# Altium integrated library NXP_60_26022015.IntLib: 1306 symbols (part 6 of 28)
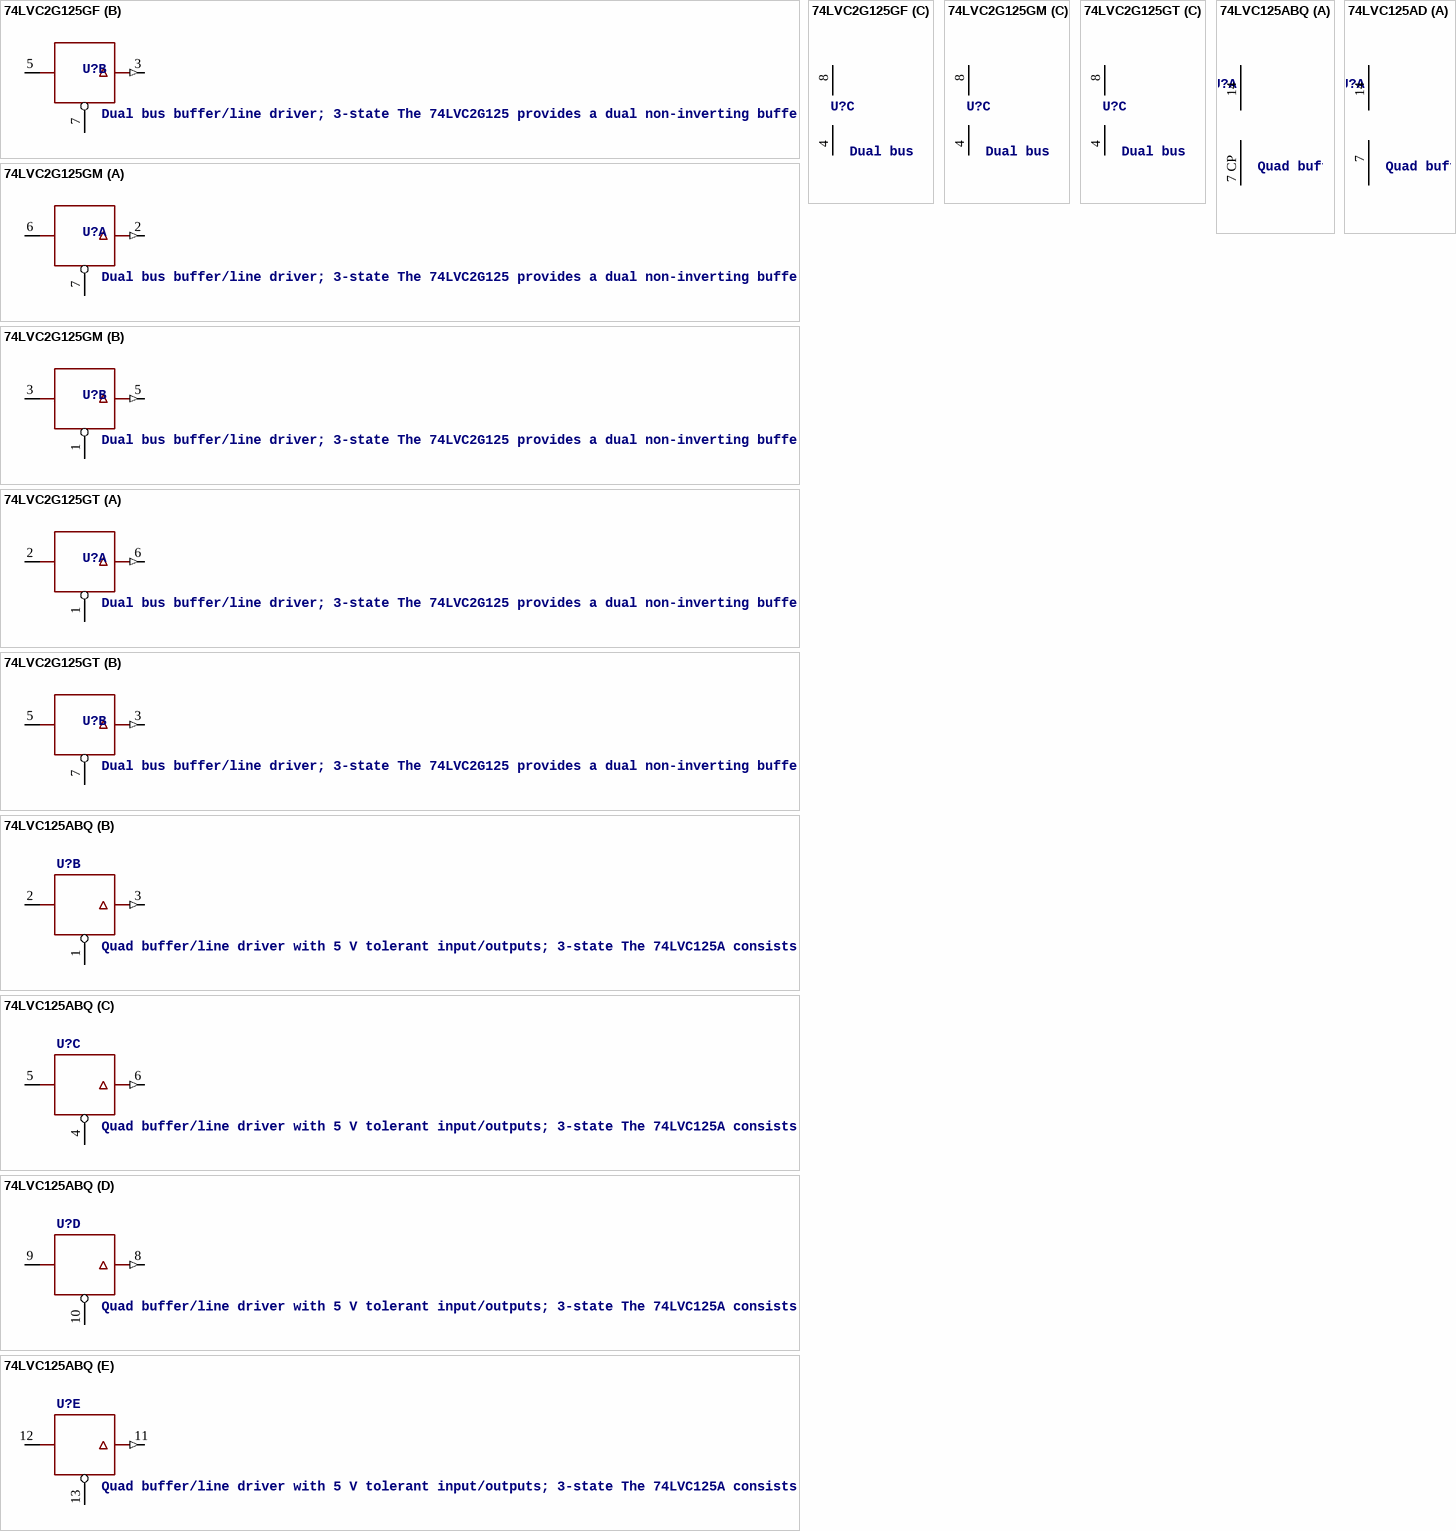
[diagram p190: symbols 74LVC2G125GF to 74LVC125AD]

## 74LVC2G125GT
designator U?, comment Dual bus buffer/line driver; 3-state The 74LVC2G125 provides a dual non-inverting buffer/line driver with 3-state output. The 3-state output is controlled by the output enable input (pin nOE). A HIGH-level at pin nOE causes the output to assume a high-impedance OFF-state. Schmitt trigger action at all inputs makes the circuit highly tolerant of slower input rise and fall times. Inputs can be driven from either 3.3 V or 5 V devices. This feature allows the use of these devices as translators in a mixed 3.3 V and 5 V environment. This device is fully specified for partial power-down applications using IOFF. The IOFF circuitry disables the output, preventing a damaging backflow current through the device when it is powered down.    AAL Eindhoven MK
footprint SOT833-1
part A pins: 1 !OE, 2 A, 6 Y (out)
part B pins: 3 Y (out), 5 A, 7 !OE
part C pins: 4 GND (power), 8 VCC (power)

## 74LVC125ABQ
designator U?, comment Quad buffer/line driver with 5 V tolerant input/outputs; 3-state The 74LVC125A consists of four non-inverting buffers/line drivers with 3-state outputs (nY) that are controlled by the output enable input (nOE). A HIGH at nOE causes the outputs to assume a high-impedance OFF-state. Inputs can be driven from either 3.3 V or 5 V devices. When disabled, up to 5.5 V can be applied to the outputs.   AAL Eindhoven MK
footprint SOT762-1
part A pins: 7 CP GND (power), 14 VCC (power)
part B pins: 1 !OE, 2 A, 3 Y (out)
part C pins: 4 !OE, 5 A, 6 Y (out)
part D pins: 8 Y (out), 9 A, 10 !OE
part E pins: 11 Y (out), 12 A, 13 !OE

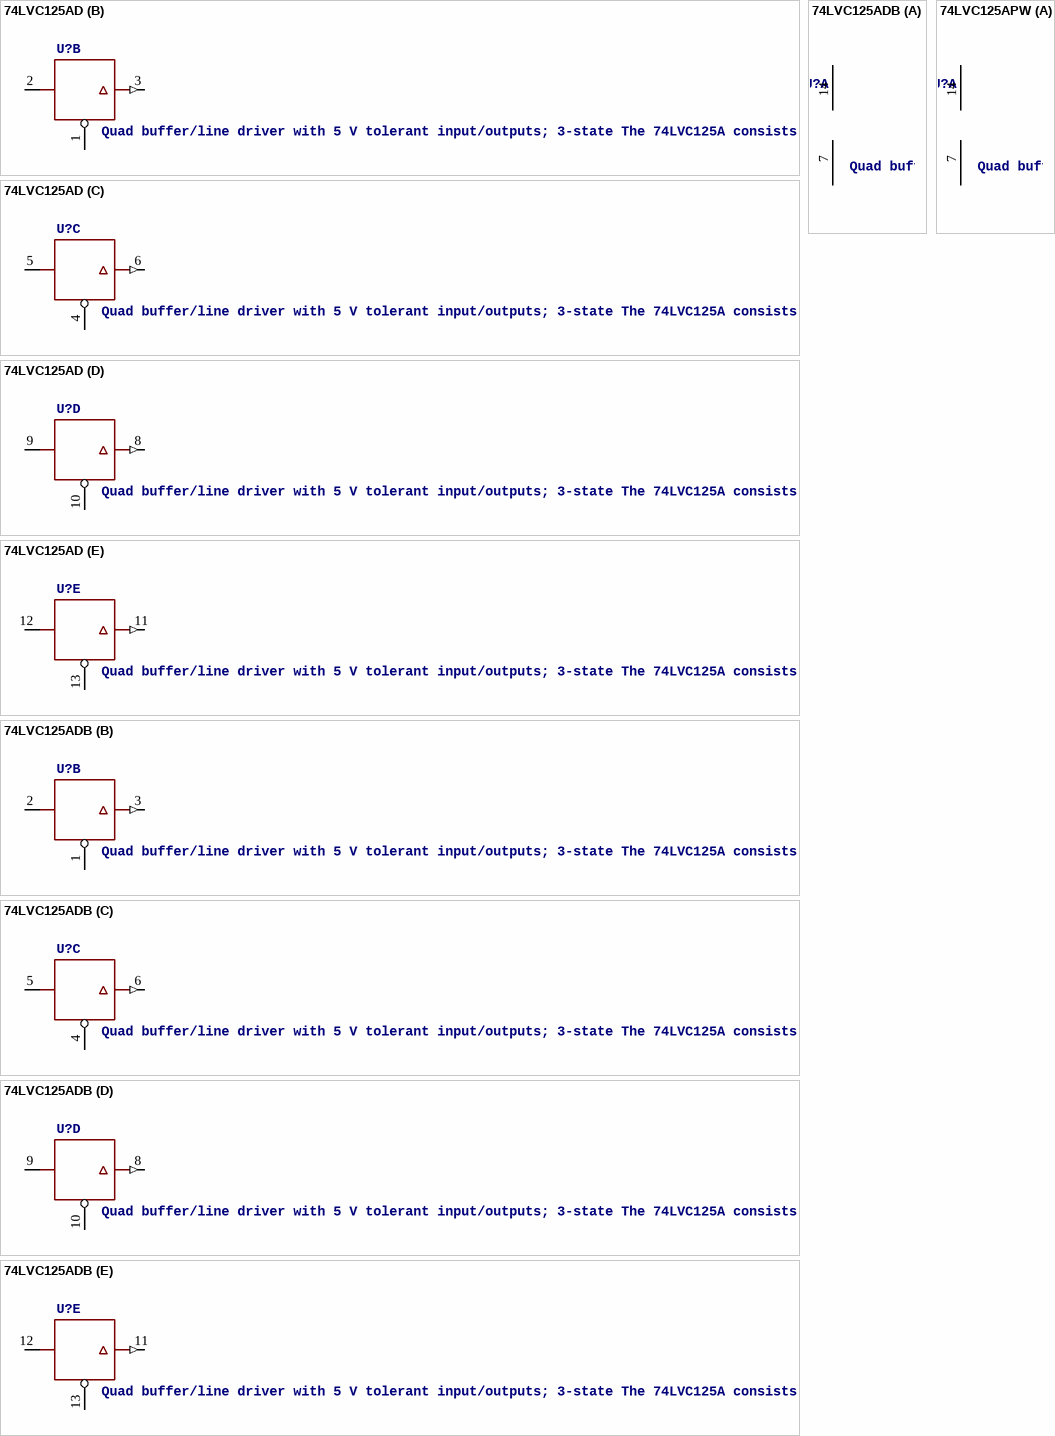
[diagram p27: symbols 74LVC125AD to 74LVC125APW]

## 74LVC125AD
designator U?, comment Quad buffer/line driver with 5 V tolerant input/outputs; 3-state The 74LVC125A consists of four non-inverting buffers/line drivers with 3-state outputs (nY) that are controlled by the output enable input (nOE). A HIGH at nOE causes the outputs to assume a high-impedance OFF-state. Inputs can be driven from either 3.3 V or 5 V devices. When disabled, up to 5.5 V can be applied to the outputs.   AAL Eindhoven MK
12NC: 9352 317 00118
footprint SOT108-1
part A pins: 7 GND (power), 14 VCC (power)
part B pins: 1 !OE, 2 A, 3 Y (out)
part C pins: 4 !OE, 5 A, 6 Y (out)
part D pins: 8 Y (out), 9 A, 10 !OE
part E pins: 11 Y (out), 12 A, 13 !OE

## 74LVC125ADB
designator U?, comment Quad buffer/line driver with 5 V tolerant input/outputs; 3-state The 74LVC125A consists of four non-inverting buffers/line drivers with 3-state outputs (nY) that are controlled by the output enable input (nOE). A HIGH at nOE causes the outputs to assume a high-impedance OFF-state. Inputs can be driven from either 3.3 V or 5 V devices. When disabled, up to 5.5 V can be applied to the outputs.   AAL Eindhoven MK
footprint SOT337
part A pins: 7 GND (power), 14 VCC (power)
part B pins: 1 !OE, 2 A, 3 Y (out)
part C pins: 4 !OE, 5 A, 6 Y (out)
part D pins: 8 Y (out), 9 A, 10 !OE
part E pins: 11 Y (out), 12 A, 13 !OE

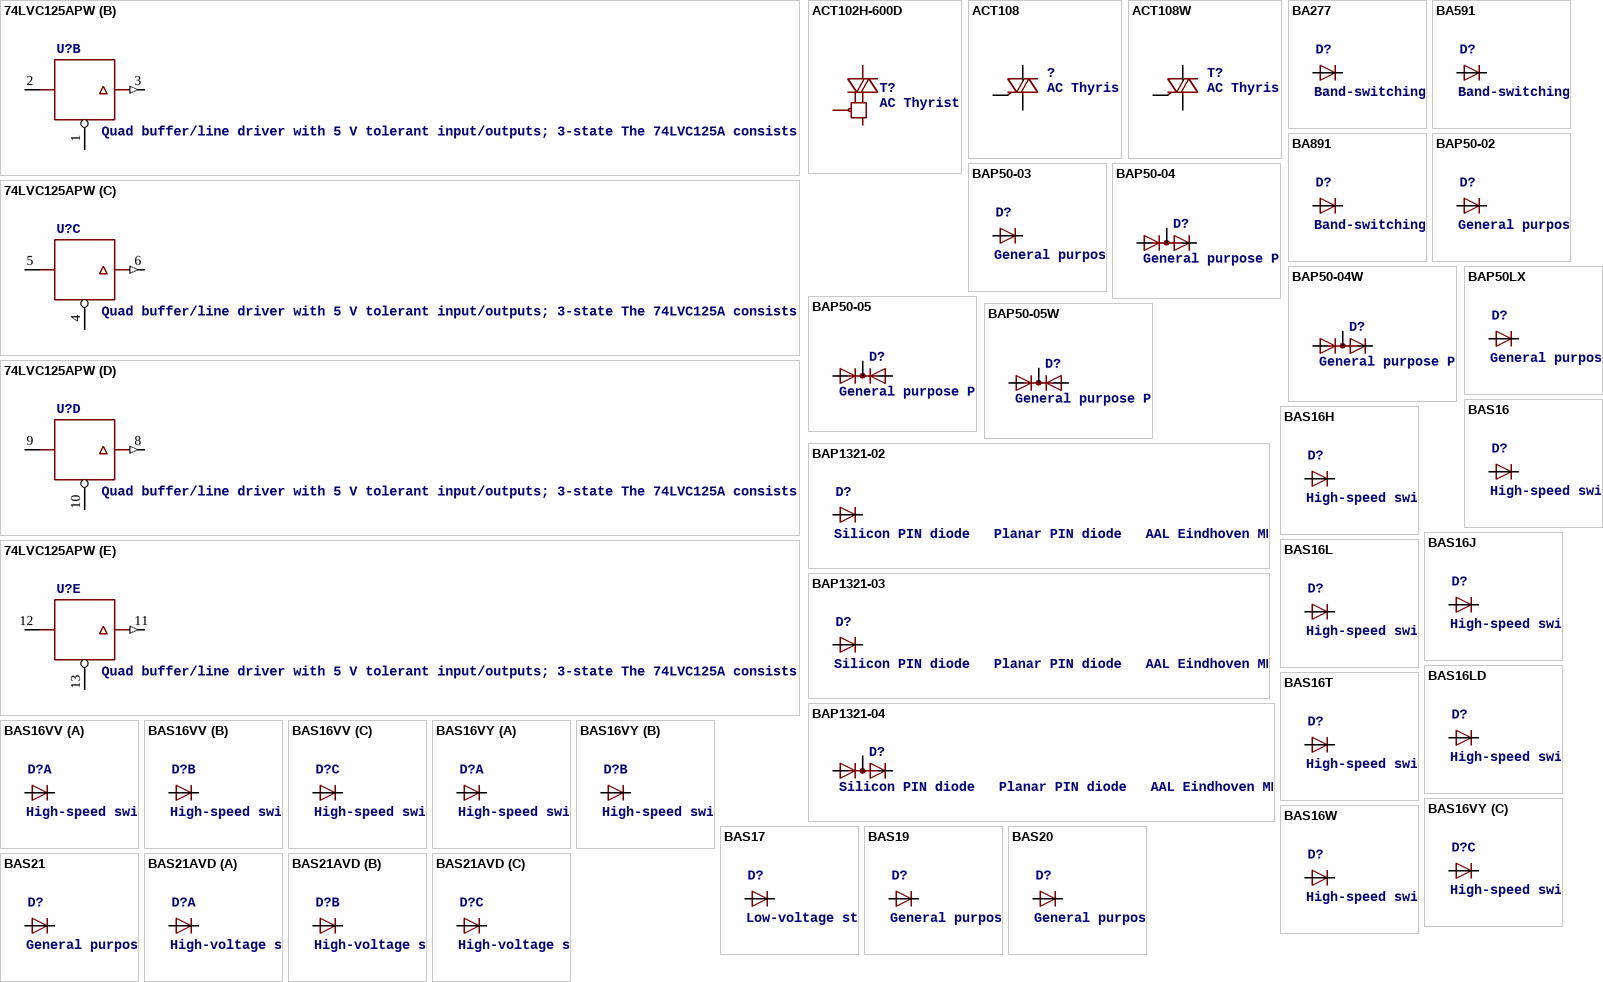
[diagram p28: symbols 74LVC125APW to BAS21AVD]

## 74LVC125APW
designator U?, comment Quad buffer/line driver with 5 V tolerant input/outputs; 3-state The 74LVC125A consists of four non-inverting buffers/line drivers with 3-state outputs (nY) that are controlled by the output enable input (nOE). A HIGH at nOE causes the outputs to assume a high-impedance OFF-state. Inputs can be driven from either 3.3 V or 5 V devices. When disabled, up to 5.5 V can be applied to the outputs.   AAL Eindhoven MK
footprint SOT402-1
part A pins: 7 GND (power), 14 VCC (power)
part B pins: 1 !OE, 2 A, 3 Y (out)
part C pins: 4 !OE, 5 A, 6 Y (out)
part D pins: 8 Y (out), 9 A, 10 !OE
part E pins: 11 Y (out), 12 A, 13 !OE

## ACT102H-600D
designator T?, comment AC Thyristor power switch An AC Thyristor power switch with very high noise immunity and over-voltage protection configured for negative gate triggering in a SOT96-1 (SO8) small surface-mountable plastic package   AAL Eindhoven MK
12NC: 9340 645 54118
footprint SOT96-1
pins: 2 LD, 5 G, 6 7 CM

## ACT108
designator ?, comment AC Thyristor power switch  AC Thyristor power switch in a SOT54 plastic package with self-protective capabilities against low and high energy transients   AAL Eindhoven MK
footprint SOT54A
pins: 1 T1, 2 G, 3 T2

## ACT108W
designator T?, comment AC Thyristor power switch AC Thyristor power switch in a SOT223 surface-mountable plastic package with self-protective capabilities against low and high energy transients   AAL Eindhoven MK
12NC: 9340 644 42135; 12NC: 9340 633 73135
footprint SOT223
pins: 1 T2, 2 4 T1, 3 G

## BA277
designator D?, comment Band-switching diode Planar high performance band-switching diode in a small plastic SOD523 (SC-79) SMD package.   AAL Eindhoven MK
footprint SOD523
pins: 1 K, 2 A

## BA591
designator D?, comment Band-switching diode The BA591 is a planar, high performance band-switching diode in the very small SOD323 (SC-76) SMD plastic package.   AAL Eindhoven MK
footprint SOD323(F)
pins: 1 K, 2 A

## BA891
designator D?, comment Band-switching diode The BA891 is a planar high performance band-switching diode in the ultra small SOD523 SMD plastic package.   AAL Eindhoven MK
footprint SOD523
pins: 1 K, 2 A

## BAP50-02
designator D?, comment General purpose PIN diode General purpose PIN diode   AAL Eindhoven MK
footprint SOD523
pins: 1 K, 2 A

## BAP50-03
designator D?, comment General purpose PIN diode General purpose PIN diode   AAL Eindhoven MK
footprint SOD323(F)
pins: 1 K, 2 A

## BAP50-04
designator D?, comment General purpose PIN diode Two planar PIN diodes in series configuration.   AAL Eindhoven MK
footprint SOT23
pins: 1 A1, 2 K2, 3 K1A2

## BAP50-04W
designator D?, comment General purpose PIN diode Two planar PIN diodes in series configuration.   AAL Eindhoven MK
footprint SOT323
pins: 1 A1, 2 K2, 3 K1A2

## BAP50-05
designator D?, comment General purpose PIN diode Two planar PIN diodes in common cathode configuration.    AAL Eindhoven MK
footprint SOT23
pins: 1 A1, 2 A2, 3 K1K2

## BAP50-05W
designator D?, comment General purpose PIN diode Two planar PIN diodes in common cathode configuration.    AAL Eindhoven MK
footprint SOT323
pins: 1 A1, 2 A2, 3 K1K2

## BAP50LX
designator D?, comment General purpose PIN diode General purpose PIN diode   AAL Eindhoven MK
footprint SOD882(T)
pins: 1 K, 2 A

## BAP1321-02
designator D?, comment Silicon PIN diode   Planar PIN diode   AAL Eindhoven MK
footprint SOD523
pins: 1 K, 2 A

## BAP1321-03
designator D?, comment Silicon PIN diode   Planar PIN diode   AAL Eindhoven MK
footprint SOD323(F)
pins: 1 K, 2 A

## BAP1321-04
designator D?, comment Silicon PIN diode   Planar PIN diode   AAL Eindhoven MK
footprint SOT23
pins: 1 A1, 2 K2, 3 K1A2

## BAS16
designator D?, comment High-speed switching diode High-speed switching diode, encapsulated in small Surface-Mounted Device (SMD) plastic packages.   AAL Eindhoven MK
footprint SOT23
pins: 1 A, 3 K

## BAS16H
designator D?, comment High-speed switching diode High-speed switching diode, encapsulated in small Surface-Mounted Device (SMD) plastic packages.   AAL Eindhoven MK
footprint SOD123F
pins: 1 K, 2 A

## BAS16J
designator D?, comment High-speed switching diode High-speed switching diode, encapsulated in small Surface-Mounted Device (SMD) plastic packages.   AAL Eindhoven MK
footprint SOD323(F)
pins: 1 K, 2 A

## BAS16L
designator D?, comment High-speed switching diode High-speed switching diode, encapsulated in small Surface-Mounted Device (SMD) plastic packages.   AAL Eindhoven MK
footprint SOD882(T)
pins: 1 K, 2 A

## BAS16LD
designator D?, comment High-speed switching diode High-speed switching diode, encapsulated in small Surface-Mounted Device (SMD) plastic packages.   AAL Eindhoven MK
footprint SOD882D
pins: 1 K, 2 A

## BAS16T
designator D?, comment High-speed switching diode High-speed switching diode, encapsulated in small Surface-Mounted Device (SMD) plastic packages.   AAL Eindhoven MK
footprint SOT416
pins: 1 A, 3 K

## BAS16VV
designator D?, comment High-speed switching diodes High-speed switching diodes, encapsulated in small Surface-Mounted Device (SMD) plastic packages.   AAL Eindhoven MK
footprint SOT666
part A pins: 1 A, 6 K
part B pins: 2 A, 5 K
part C pins: 3 A, 4 K

## BAS16VY
designator D?, comment High-speed switching diodes High-speed switching diodes, encapsulated in small Surface-Mounted Device (SMD) plastic packages.   AAL Eindhoven MK
footprint SOT363
part A pins: 1 A, 6 K
part B pins: 2 A, 5 K
part C pins: 3 A, 4 K

## BAS16W
designator D?, comment High-speed switching diode High-speed switching diode, encapsulated in small Surface-Mounted Device (SMD) plastic packages.   AAL Eindhoven MK
footprint SOT323
pins: 1 A, 3 K

## BAS17
designator D?, comment Low-voltage stabistor Low-voltage stabilization diode in a small SOT23 plastic package.   AAL Eindhoven MK
footprint SOT23
pins: 1 A, 3 K

## BAS19
designator D?, comment General purpose diode The BAS19, BAS20 and BAS21 are general purpose diodes fabricated in planar technology, and encapsulated in a small SOT23 plastic SMD package.   AAL Eindhoven MK
footprint SOT23
pins: 1 A, 3 K

## BAS20
designator D?, comment General purpose diode The BAS19, BAS20 and BAS21 are general purpose diodes fabricated in planar technology, and encapsulated in a small SOT23 plastic SMD package.   AAL Eindhoven MK
footprint SOT23
pins: 1 A, 3 K

## BAS21
designator D?, comment General purpose diode The BAS19, BAS20 and BAS21 are general purpose diodes fabricated in planar technology, and encapsulated in a small SOT23 plastic SMD package.   AAL Eindhoven MK
footprint SOT23
pins: 1 A, 3 K

## BAS21AVD
designator D?, comment High-voltage switching diodes Triple high-voltage switching diodes, encapsulated in a SOT457 (SC-74) small Surface-Mounted Device (SMD) plastic package.   AAL Eindhoven MK
footprint SOT457
part A pins: 1 A, 6 K
part B pins: 2 A, 5 K
part C pins: 3 A, 4 K

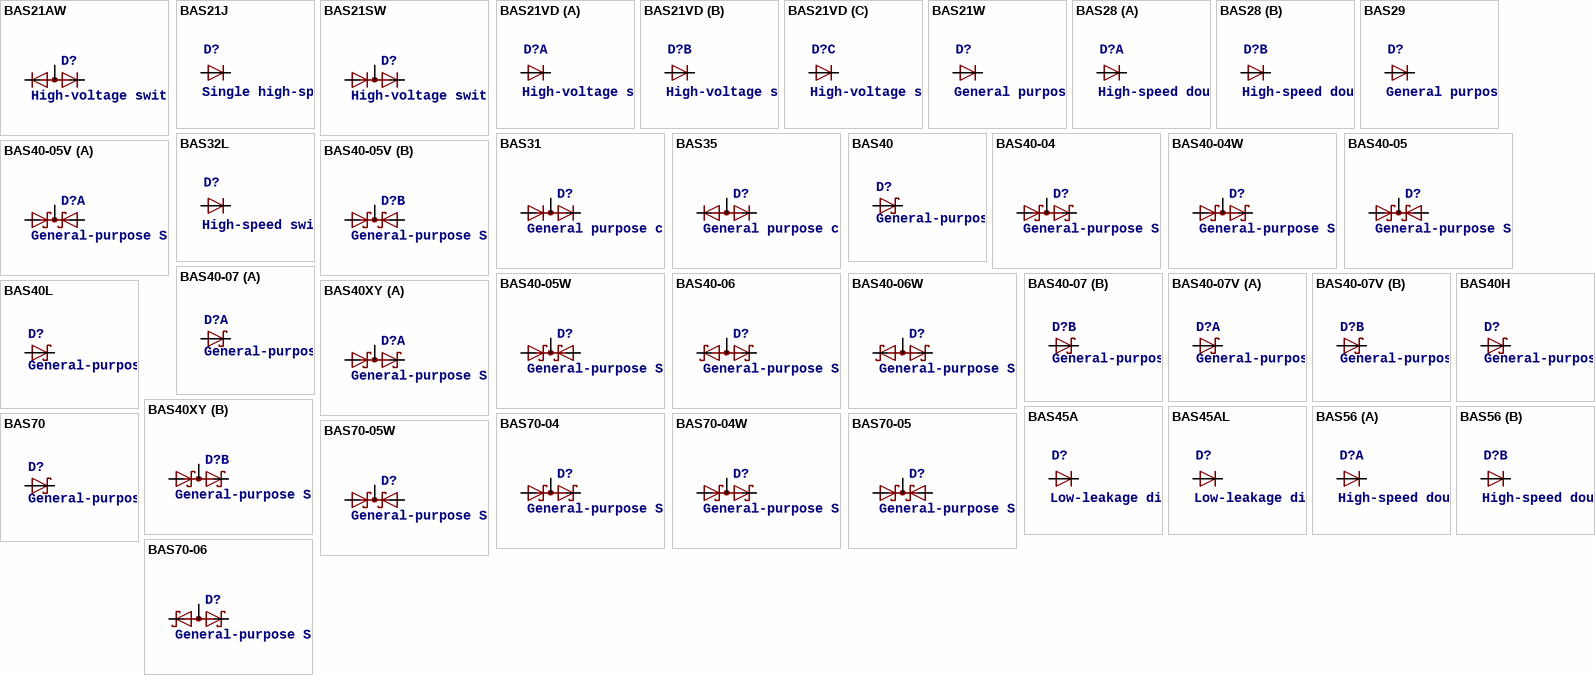
[diagram p29: symbols BAS21AW to BAS70-06]

## BAS21AW
designator D?, comment High-voltage switching diodes High-voltage switching diodes, encapsulated in a very small Surface-Mounted Device (SMD) plastic package.    AAL Eindhoven MK
footprint SOT323
pins: 1 K1, 2 K2, 3 A1A2

## BAS21J
designator D?, comment Single high-speed switching diode Single high-speed switching diode, encapsulated in a SOD323F (SC-90) very small and ?at lead Surface-Mounted Device (SMD) plastic package.   AAL Eindhoven MK
footprint SOD323(F)
pins: 1 K, 2 A

## BAS21SW
designator D?, comment High-voltage switching diodes High-voltage switching diodes, encapsulated in a very small Surface-Mounted Device (SMD) plastic package.    AAL Eindhoven MK
footprint SOT323
pins: 1 A1, 2 K2, 3 K1A2

## BAS21VD
designator D?, comment High-voltage switching diodes Triple high-voltage switching diodes, encapsulated in a SOT457 (SC-74) small Surface-Mounted Device (SMD) plastic package.   AAL Eindhoven MK
footprint SOT457
part A pins: 1 K, 6 A
part B pins: 2 K, 5 A
part C pins: 3 K, 4 A

## BAS21W
designator D?, comment General purpose diode The BAS19, BAS20 and BAS21 are general purpose diodes fabricated in planar technology, and encapsulated in a small SOT23 plastic SMD package.   AAL Eindhoven MK
12NC: 9340 632 68115
footprint SOT323
pins: 1 A, 3 K

## BAS28
designator D?, comment High-speed double diode  Two high-speed switching diodes fabricated in planar technology, and encapsulated in a small SOT143B Surface-Mounted Device (SMD) plastic package. The diodes are not connected.   AAL Eindhoven MK
footprint SOT143(B)
part A pins: 1 K, 4 A
part B pins: 2 K, 3 A

## BAS29
designator D?, comment General purpose controlled avalanche diode  General purpose switching diodes fabricated in planar technology, and encapsulated in small rectangular plastic SMD SOT23 packages. The BAS29 consists of a single diode. The BAS31 has two diodes in series. The BAS35 has two diodes with a common anode.    AAL Eindhoven MK
footprint SOT23
pins: 1 A, 3 K

## BAS31
designator D?, comment General purpose controlled avalanche diode (double)  General purpose switching diodes fabricated in planar technology, and encapsulated in small rectangular plastic SMD SOT23 packages. The BAS29 consists of a single diode. The BAS31 has two diodes in series. The BAS35 has two diodes with a common anode.    AAL Eindhoven MK
footprint SOT23
pins: 1 A1, 2 K2, 3 K1A2

## BAS32L
designator D?, comment High-speed switching diode  Single high-speed switching diode, fabricated in planar technology, and encapsulated in a small hermetically sealed glass SOD80C Surface-Mounted Device (SMD) package.   AAL Eindhoven MK
footprint SOD80C
pins: 1 K, 2 A

## BAS35
designator D?, comment General purpose controlled avalanche diode (double)  General purpose switching diodes fabricated in planar technology, and encapsulated in small rectangular plastic SMD SOT23 packages. The BAS29 consists of a single diode. The BAS31 has two diodes in series. The BAS35 has two diodes with a common anode.    AAL Eindhoven MK
footprint SOT23
pins: 1 K1, 2 K2, 3 A1A2

## BAS40
designator D?, comment General-purpose Schottky diode  General-purpose Schottky diodes in small Surface-Mounted Device (SMD) plastic packages.    AAL Eindhoven MK
12NC: 9340 345 30215
footprint SOT23
pins: 1 A, 3 K

## BAS40-04
designator D?, comment General-purpose Schottky diodes General-purpose Schottky diodes in small Surface-Mounted Device (SMD) plastic packages   AAL Eindhoven MK
FARNELL: 1907602
footprint SOT23
pins: 1 A1, 2 K2, 3 K1A2

## BAS40-04W
designator D?, comment General-purpose Schottky diodes General-purpose Schottky diodes in small Surface-Mounted Device (SMD) plastic packages   AAL Eindhoven MK
footprint SOT323
pins: 1 A1, 2 K2, 3 K1A2

## BAS40-05
designator D?, comment General-purpose Schottky diodes General-purpose Schottky diodes in small Surface-Mounted Device (SMD) plastic packages   AAL Eindhoven MK
footprint SOT23
pins: 1 A1, 2 A2, 3 K1K2

## BAS40-05V
designator D?, comment General-purpose Schottky diodes  General-purpose Schottky diodes in small Surface-Mounted Device (SMD) plastic packages.   AAL Eindhoven MK
footprint SOT666
part A pins: 1 A1, 2 A2, 6 K1K2
part B pins: 3 K1K2, 4 A1, 5 A2

## BAS40-05W
designator D?, comment General-purpose Schottky diodes General-purpose Schottky diodes in small Surface-Mounted Device (SMD) plastic packages   AAL Eindhoven MK
footprint SOT323
pins: 1 A1, 2 A2, 3 K1K2

## BAS40-06
designator D?, comment General-purpose Schottky diodes General-purpose Schottky diodes in small Surface-Mounted Device (SMD) plastic packages   AAL Eindhoven MK
footprint SOT23
pins: 1 K1, 2 K2, 3 A1A2

## BAS40-06W
designator D?, comment General-purpose Schottky diodes General-purpose Schottky diodes in small Surface-Mounted Device (SMD) plastic packages   AAL Eindhoven MK
footprint SOT323
pins: 1 K1, 2 K2, 3 A1A2

## BAS40-07
designator D?, comment General-purpose Schottky diodes  General-purpose Schottky diodes in small Surface-Mounted Device (SMD) plastic packages.   AAL Eindhoven MK
FARNELL: 8734364
footprint SOT143(B)
part A pins: 1 K, 4 A
part B pins: 2 K, 3 A

## BAS40-07V
designator D?, comment General-purpose Schottky diodes  General-purpose Schottky diodes in small Surface-Mounted Device (SMD) plastic packages.   AAL Eindhoven MK
footprint SOT666
part A pins: 1 A, 6 K
part B pins: 3 K, 4 A

## BAS40H
designator D?, comment General-purpose Schottky diode  General-purpose Schottky diodes in small Surface-Mounted Device (SMD) plastic packages.    AAL Eindhoven MK
12NC: 9340 592 81115
footprint SOD123F
pins: 1 K, 2 A

## BAS40L
designator D?, comment General-purpose Schottky diode  General-purpose Schottky diodes in small Surface-Mounted Device (SMD) plastic packages.    AAL Eindhoven MK
12NC: 9340 572 53315
footprint SOD882(T)
pins: 1 K, 2 A

## BAS40XY
designator D?, comment General-purpose Schottky diodes  General-purpose Schottky diodes in small Surface-Mounted Device (SMD) plastic packages.   AAL Eindhoven MK
footprint SOT363
part A pins: 1 A1, 2 K2, 6 K1A2
part B pins: 3 K1A2, 4 A1, 5 K2

## BAS45A
designator D?, comment Low-leakage diode Epitaxial medium-speed switching diode with a low leakage current, encapsulated in a small hermetically sealed glass SOD80C Surface-Mounted Device (SMD) package.   AAL Eindhoven MK
footprint SOD68
pins: A, C K

## BAS45AL
designator D?, comment Low-leakage diode Epitaxial medium-speed switching diode with a low leakage current, encapsulated in a small hermetically sealed glass SOD80C Surface-Mounted Device (SMD) package.   AAL Eindhoven MK
footprint SOD80C
pins: 1 K, 2 A

## BAS56
designator D?, comment High-speed double diode Two high-speed switching diodes fabricated in planar technology, and encapsulated in a small SOT143B Surface-Mounted Device (SMD) plastic package. The diodes are not connected.   AAL Eindhoven MK
footprint SOT143(B)
part A pins: 1 K, 4 A
part B pins: 2 K, 3 A

## BAS70
designator D?, comment General-purpose Schottky diode  General-purpose Schottky diodes in small Surface-Mounted Device (SMD) plastic packages.    AAL Eindhoven MK
footprint SOT23
pins: 1 A, 3 K

## BAS70-04
designator D?, comment General-purpose Schottky diodes General-purpose Schottky diodes in small Surface-Mounted Device (SMD) plastic packages   AAL Eindhoven MK
footprint SOT23
pins: 1 A1, 2 K2, 3 K1A2

## BAS70-04W
designator D?, comment General-purpose Schottky diodes General-purpose Schottky diodes in small Surface-Mounted Device (SMD) plastic packages   AAL Eindhoven MK
footprint SOT323
pins: 1 A1, 2 K2, 3 K1A2

## BAS70-05
designator D?, comment General-purpose Schottky diodes General-purpose Schottky diodes in small Surface-Mounted Device (SMD) plastic packages   AAL Eindhoven MK
footprint SOT23
pins: 1 A1, 2 A2, 3 K1K2

## BAS70-05W
designator D?, comment General-purpose Schottky diodes General-purpose Schottky diodes in small Surface-Mounted Device (SMD) plastic packages   AAL Eindhoven MK
footprint SOT323
pins: 1 A1, 2 A2, 3 K1K2

## BAS70-06
designator D?, comment General-purpose Schottky diodes General-purpose Schottky diodes in small Surface-Mounted Device (SMD) plastic packages   AAL Eindhoven MK
footprint SOT23
pins: 1 K1, 2 K2, 3 A1A2

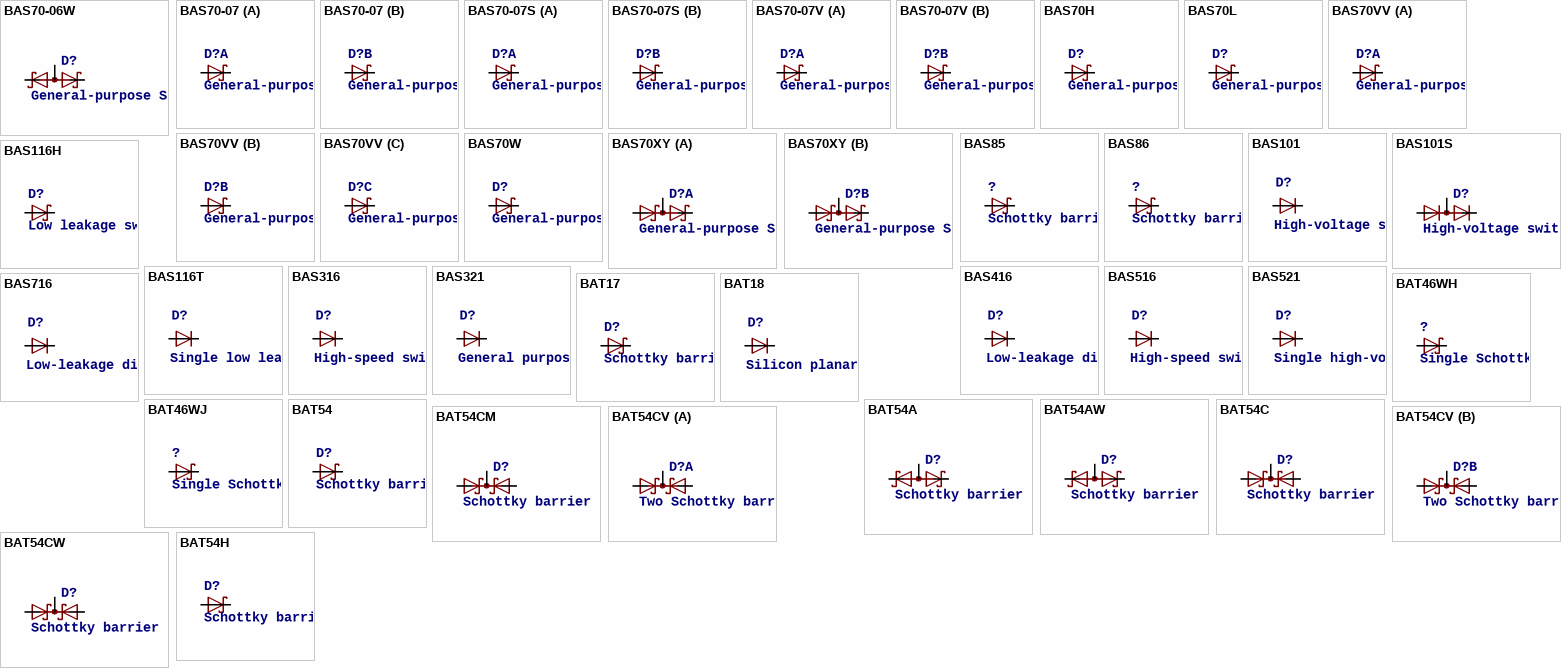
[diagram p30: symbols BAS70-06W to BAT54H]

## BAS70-06W
designator D?, comment General-purpose Schottky diodes General-purpose Schottky diodes in small Surface-Mounted Device (SMD) plastic packages   AAL Eindhoven MK
footprint SOT323
pins: 1 K1, 2 K2, 3 A1A2

## BAS70-07
designator D?, comment General-purpose Schottky diodes  General-purpose Schottky diodes in small Surface-Mounted Device (SMD) plastic packages.   AAL Eindhoven MK
footprint SOT143(B)
part A pins: 1 K, 4 A
part B pins: 2 K, 3 A

## BAS70-07S
designator D?, comment General-purpose Schottky diodes  General-purpose Schottky diodes in small Surface-Mounted Device (SMD) plastic packages.   AAL Eindhoven MK
footprint SOT363
part A pins: 1 A, 6 K
part B pins: 3 K, 4 A

## BAS70-07V
designator D?, comment General-purpose Schottky diodes  General-purpose Schottky diodes in small Surface-Mounted Device (SMD) plastic packages.   AAL Eindhoven MK
footprint SOT666
part A pins: 1 A, 6 K
part B pins: 3 K, 4 A

## BAS70H
designator D?, comment General-purpose Schottky diode  General-purpose Schottky diodes in small Surface-Mounted Device (SMD) plastic packages.    AAL Eindhoven MK
footprint SOD123F
pins: 1 K, 2 A

## BAS70L
designator D?, comment General-purpose Schottky diode  General-purpose Schottky diodes in small Surface-Mounted Device (SMD) plastic packages.    AAL Eindhoven MK
footprint SOD882(T)
pins: 1 K, 2 A

## BAS70VV
designator D?, comment General-purpose Schottky diodes General-purpose Schottky diodes in small Surface-Mounted Device (SMD) plastic packages.   AAL Eindhoven MK
footprint SOT666
part A pins: 1 A, 6 K
part B pins: 2 A, 5 K
part C pins: 3 A, 4 K

## BAS70W
designator D?, comment General-purpose Schottky diode  General-purpose Schottky diodes in small Surface-Mounted Device (SMD) plastic packages.    AAL Eindhoven MK
footprint SOT323
pins: 1 A, 3 K

## BAS70XY
designator D?, comment General-purpose Schottky diodes  General-purpose Schottky diodes in small Surface-Mounted Device (SMD) plastic packages.   AAL Eindhoven MK
footprint SOT363
part A pins: 1 A1, 2 K2, 6 K1A2
part B pins: 3 K1A2, 4 A1, 5 K2

## BAS85
designator ?, comment Schottky barrier diode Planar Schottky barrier diode with an integrated guard ring for stress protection, encapsulated in a small hermetically sealed glass SOD80C Surface-Mounted Device SMD package with tin-plated metal discs at each end. It is suitable for ?automatic placement? and as such it can withstand immersion soldering.   AAL Eindhoven MK
footprint SOD80C
pins: 1 K, 2 A

## BAS86
designator ?, comment Schottky barrier diode Planar Schottky barrier diode with an integrated guard ring against static discharges. This surface-mounted device is encapsulated in a small hermetically sealed SOD80C glass Surface-Mounted Device (SMD) package with tin-plated metal discs at each end. It is suitable for ?automatic placement? and as such it can withstand immersion soldering.   AAL Eindhoven MK
footprint SOD80C
pins: 1 K, 2 A

## BAS101
designator D?, comment High-voltage switching diode High-voltage switching diode, encapsulated in a SOT23 small Surface-Mounted Device (SMD) plastic package.   AAL Eindhoven MK
footprint SOT23
pins: 1 A, 3 K

## BAS101S
designator D?, comment High-voltage switching diodes High-voltage switching diodes, encapsulated in a SOT23 small Surface-Mounted Device (SMD) plastic package.   AAL Eindhoven MK
footprint SOT23
pins: 1 A1, 2 K2, 3 K1A2

## BAS116H
designator D?, comment Low leakage switching diode Low leakage switching diode, encapsulated in a SOD123F small and flat lead Surface-Mounted Device (SMD) plastic package.    AAL Eindhoven MK
footprint SOD123F
pins: 1 K, 2 A

## BAS116T
designator D?, comment Single low leakage current switching diode Single low leakage current switching diode, encapsulated in an ultra small SOT416 (SC-75) Surface-Mounted Device (SMD) plastic package.   AAL Eindhoven MK
footprint SOT416
pins: 1 A, 3 K

## BAS316
designator D?, comment High-speed switching diode High-speed switching diode, encapsulated in small Surface-Mounted Device (SMD) plastic packages.   AAL Eindhoven MK
footprint SOD323(F)
pins: 1 K, 2 A

## BAS321
designator D?, comment General purpose diode The BAS321 is a general purpose diode fabricated in planar technology and encapsulated in a plastic SOD323 package.   AAL Eindhoven MK
footprint SOD323(F)
pins: 1 K, 2 A

## BAS416
designator D?, comment Low-leakage diode Epitaxial, medium-speed switching diode with a low leakage current encapsulated in a small SOD323 SMD plastic package.   AAL Eindhoven MK
footprint SOD323(F)
pins: 1 K, 2 A

## BAS516
designator D?, comment High-speed switching diode High-speed switching diode, encapsulated in small Surface-Mounted Device (SMD) plastic packages.   AAL Eindhoven MK
footprint SOD523
pins: 1 K, 2 A

## BAS521
designator D?, comment Single high-voltage switching diode Single high-voltage switching diode, fabricated in planar technology, and encapsulated in a SOD523 (SC-79) ultra small Surface-Mounted Device (SMD) plastic package.   AAL Eindhoven MK
footprint SOD523
pins: 1 K, 2 A

## BAS716
designator D?, comment Low-leakage diode  Epitaxial medium-speed switching diode with a low leakage current in an ultra small SOD523 (SC-79) SMD plastic package.   AAL Eindhoven MK
footprint SOD523
pins: 1 K, 2 A

## BAT17
designator D?, comment Schottky barrier diode Planar Schottky barrier diode in a small SOT23 plastic SMD package.   AAL Eindhoven MK
footprint SOT23
pins: 1 A, 3 K

## BAT18
designator D?, comment Silicon planar diode Planar high performance band-switching diode in a small rectangular SOT23 SMD plastic package.   AAL Eindhoven MK
footprint SOT23
pins: 1 A, 3 K

## BAT46WH
designator ?, comment Single Schottky barrier diode Single planar Schottky barrier diode with an integrated guard ring for stress protection, encapsulated in a Surface-Mounted Device (SMD) plastic package.   AAL Eindhoven MK
footprint SOD123F
pins: 1 K, 2 A

## BAT46WJ
designator ?, comment Single Schottky barrier diode Single planar Schottky barrier diode with an integrated guard ring for stress protection, encapsulated in a Surface-Mounted Device (SMD) plastic package.   AAL Eindhoven MK
footprint SOD323(F)
pins: 1 K, 2 A

## BAT54
designator D?, comment Schottky barrier diode Planar Schottky barrier diode encapsulated in small plastic SMD packages. Single diodes and double diodes with different pinning are available   AAL Eindhoven MK
footprint SOT23
pins: 1 A, 3 K

## BAT54A
designator D?, comment Schottky barrier (double) diodes Planar Schottky barrier diodes encapsulated in a SOT23 small plastic SMD package. Single diodes and double diodes with different pinning are available.   AAL Eindhoven MK
footprint SOT23
pins: 1 K1, 2 K2, 3 A1A2

## BAT54AW
designator D?, comment Schottky barrier (double) diodes Planar Schottky barrier diodes encapsulated in a SOT23 small plastic SMD package. Single diodes and double diodes with different pinning are available.   AAL Eindhoven MK
footprint SOT323
pins: 1 K1, 2 K2, 3 A1A2

## BAT54C
designator D?, comment Schottky barrier (double) diodes Planar Schottky barrier diodes encapsulated in a SOT23 small plastic SMD package. Single diodes and double diodes with different pinning are available.   AAL Eindhoven MK
footprint SOT23
pins: 1 A1, 2 A2, 3 K1K2

## BAT54CM
designator D?, comment Schottky barrier (double) diodes Planar Schottky barrier diodes encapsulated in a SOT23 small plastic SMD package. Single diodes and double diodes with different pinning are available.   AAL Eindhoven MK
footprint SOT883(B)
pins: 1 A1, 2 A2, 3 K1K2

## BAT54CV
designator D?, comment Two Schottky barrier double diodes  Two planar Schottky barrier double diodes with common cathodes and an integrated guard ring for stress protection encapsulated in a SOT666 ultra small and flat lead Surface-Mounted Device (SMD) plastic package.   AAL Eindhoven MK
footprint SOT666
part A pins: 1 A1, 2 A2, 6 K1K2
part B pins: 3 K1K2, 4 A2, 5 A1

## BAT54CW
designator D?, comment Schottky barrier (double) diodes Planar Schottky barrier diodes encapsulated in a SOT23 small plastic SMD package. Single diodes and double diodes with different pinning are available.   AAL Eindhoven MK
footprint SOT323
pins: 1 A1, 2 A2, 3 K1K2

## BAT54H
designator D?, comment Schottky barrier diode Planar Schottky barrier diode encapsulated in small plastic SMD packages. Single diodes and double diodes with different pinning are available   AAL Eindhoven MK
footprint SOD123F
pins: 1 K, 2 A

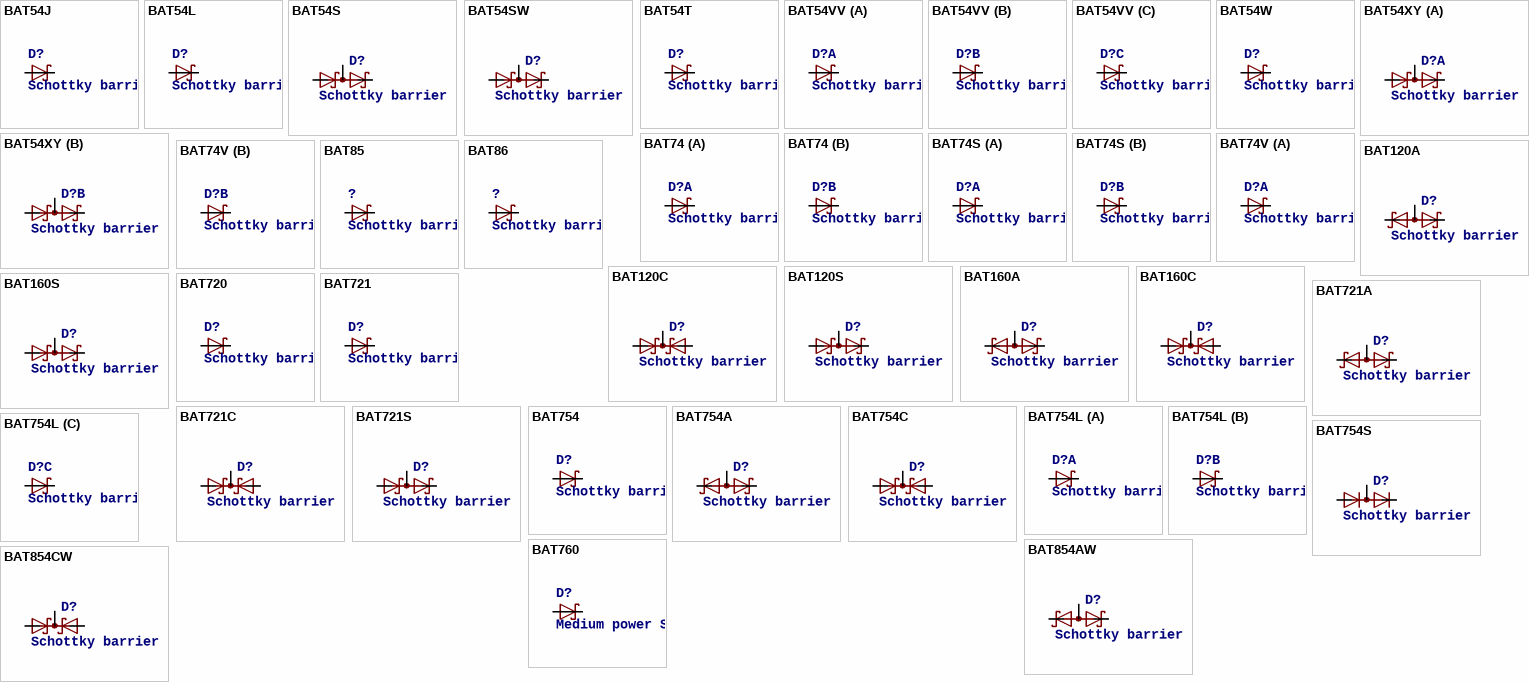
[diagram p31: symbols BAT54J to BAT854CW]

## BAT54J
designator D?, comment Schottky barrier diode Planar Schottky barrier diode encapsulated in small plastic SMD packages. Single diodes and double diodes with different pinning are available   AAL Eindhoven MK
footprint SOD323(F)
pins: 1 K, 2 A

## BAT54L
designator D?, comment Schottky barrier diode Planar Schottky barrier diode encapsulated in small plastic SMD packages. Single diodes and double diodes with different pinning are available   AAL Eindhoven MK
footprint SOD882(T)
pins: 1 K, 2 A

## BAT54S
designator D?, comment Schottky barrier (double) diodes Planar Schottky barrier diodes encapsulated in a SOT23 small plastic SMD package. Single diodes and double diodes with different pinning are available.   AAL Eindhoven MK
footprint SOT23
pins: 1 A1, 2 K2, 3 K1A2

## BAT54SW
designator D?, comment Schottky barrier (double) diodes Planar Schottky barrier diodes encapsulated in a SOT23 small plastic SMD package. Single diodes and double diodes with different pinning are available.   AAL Eindhoven MK
footprint SOT323
pins: 1 A1, 2 K2, 3 K1A2

## BAT54T
designator D?, comment Schottky barrier diode Planar Schottky barrier diode encapsulated in small plastic SMD packages. Single diodes and double diodes with different pinning are available   AAL Eindhoven MK
footprint SOT416
pins: 1 A, 3 K

## BAT54VV
designator D?, comment Schottky barrier triple diode Planar Schottky barrier triple diode with an integrated guard ring for stress protection. Three electrically isolated Schottky barrier diodes, encapsulated in a SOT666 ultra small SMD plastic package.   AAL Eindhoven MK
footprint SOT666
part A pins: 1 A, 6 K
part B pins: 2 A, 5 K
part C pins: 3 A, 4 K

## BAT54W
designator D?, comment Schottky barrier diode Planar Schottky barrier diode encapsulated in small plastic SMD packages. Single diodes and double diodes with different pinning are available   AAL Eindhoven MK
footprint SOT323
pins: 1 A, 3 K

## BAT54XY
designator D?, comment Schottky barrier quadruple diode in very small SOT363 package  Schottky barrier quadruple diode with an integrated guard ring for stress protection. Two electrically isolated dual Schottky barrier diodes series, encapsulated in a SOT363 very small SMD plastic package.   AAL Eindhoven MK
footprint SOT363
part A pins: 1 A1, 2 K2, 6 K1A2
part B pins: 3 K1A2, 4 A1, 5 K2

## BAT74
designator D?, comment Schottky barrier double diode Planar Schottky barrier double diode with an integrated guard ring for stress protection. Two electrically isolated Schottky barrier diodes, encapsulated in a small SOT143B Surface-Mounted Device (SMD) plastic package.   AAL Eindhoven MK
footprint SOT143(B)
part A pins: 1 K, 4 A
part B pins: 2 K, 3 A

## BAT74S
designator D?, comment Schottky barrier double diode Planar Schottky barrier double diode with an integrated guard ring for stress protection. Two electrically isolated Schottky barrier diodes, encapsulated in a small SOT143B Surface-Mounted Device (SMD) plastic package.   AAL Eindhoven MK
footprint SOT363
part A pins: 1 A, 6 K
part B pins: 3 K, 4 A

## BAT74V
designator D?, comment Schottky barrier double diode Planar Schottky barrier double diode with an integrated guard ring for stress protection. Two electrically isolated Schottky barrier diodes, encapsulated in a small SOT143B Surface-Mounted Device (SMD) plastic package.   AAL Eindhoven MK
footprint SOT666
part A pins: 1 A, 6 K
part B pins: 3 K, 4 A

## BAT85
designator ?, comment Schottky barrier diode  Planar Schottky barrier diode with an integrated protection ring against static discharges, encapsulated in a hermetically-sealed subminiature SOD68 (DO-34) package. The diode is suitable for mounting on a 2 E (5.08 mm) pitch.   AAL Eindhoven MK
footprint SOD68
pins: A, C K

## BAT86
designator ?, comment Schottky barrier diode  Planar Schottky barrier diode with an integrated protection ring against static discharges, encapsulated in a hermetically-sealed subminiature SOD68 (DO-34) package. The diode is suitable for mounting on a 2 E (5.08 mm) pitch.   AAL Eindhoven MK
footprint SOD68
pins: A, C K

## BAT120A
designator D?, comment Schottky barrier double diodes Planar Schottky barrier double diodes encapsulated in a SOT223 plastic SMD package.   AAL Eindhoven MK
footprint SOT223
pins: 1 K1, 3 K2, 4 A1A2

## BAT120C
designator D?, comment Schottky barrier double diodes Planar Schottky barrier double diodes encapsulated in a SOT223 plastic SMD package.   AAL Eindhoven MK
footprint SOT223
pins: 1 A1, 3 A2, 4 K1K2

## BAT120S
designator D?, comment Schottky barrier double diodes Planar Schottky barrier double diodes encapsulated in a SOT223 plastic SMD package.   AAL Eindhoven MK
footprint SOT223
pins: 1 A1, 3 K2, 4 K1A2

## BAT160A
designator D?, comment Schottky barrier double diodes Planar Schottky barrier double diodes encapsulated in a SOT223 plastic SMD package.   AAL Eindhoven MK
footprint SOT223
pins: 1 K1, 3 K2, 4 A1A2

## BAT160C
designator D?, comment Schottky barrier double diodes Planar Schottky barrier double diodes encapsulated in a SOT223 plastic SMD package.   AAL Eindhoven MK
footprint SOT223
pins: 1 A1, 3 A2, 4 K1K2

## BAT160S
designator D?, comment Schottky barrier double diodes Planar Schottky barrier double diodes encapsulated in a SOT223 plastic SMD package.   AAL Eindhoven MK
footprint SOT223
pins: 1 A1, 3 K2, 4 K1A2

## BAT720
designator D?, comment Schottky barrier diode Planar Schottky barrier diode with an integrated guard ring for stress protection in a small SOT23 plastic SMD package.   AAL Eindhoven MK
footprint SOT23
pins: 1 A, 3 K

## BAT721
designator D?, comment Schottky barrier diodes in small packages Planar Schottky barrier diodes with an integrated guard ring for stress protection. Encapsulated in small Surface-Mounted Device (SMD) plastic packages.   AAL Eindhoven MK
footprint SOT23
pins: 1 A, 3 K

## BAT721A
designator D?, comment Schottky barrier diodes in small packages Planar Schottky barrier diodes with an integrated guard ring for stress protection. Encapsulated in small Surface-Mounted Device (SMD) plastic packages.   AAL Eindhoven MK
footprint SOT23
pins: 1 K1, 2 K2, 3 A1A2

## BAT721C
designator D?, comment Schottky barrier diodes in small packages Planar Schottky barrier diodes with an integrated guard ring for stress protection. Encapsulated in small Surface-Mounted Device (SMD) plastic packages.   AAL Eindhoven MK
footprint SOT23
pins: 1 A1, 2 A2, 3 K1K2

## BAT721S
designator D?, comment Schottky barrier diodes in small packages Planar Schottky barrier diodes with an integrated guard ring for stress protection. Encapsulated in small Surface-Mounted Device (SMD) plastic packages.   AAL Eindhoven MK
footprint SOT23
pins: 1 A1, 2 K2, 3 K1A2

## BAT754
designator D?, comment Schottky barrier diode Planar Schottky barrier diodes encapsulated in a SOT23 small plastic SMD package. Low forward voltage selection of the BAT54 series. Single diodes and double diodes with different pinning are available.   AAL Eindhoven MK
footprint SOT23
pins: 1 A, 3 K

## BAT754A
designator D?, comment Schottky barrier (double) diodes Planar Schottky barrier diodes encapsulated in a SOT23 small plastic SMD package. Low forward voltage selection of the BAT54 series. Single diodes and double diodes with different pinning are available.   AAL Eindhoven MK
footprint SOT23
pins: 1 K1, 2 K2, 3 A1A2

## BAT754C
designator D?, comment Schottky barrier (double) diodes Planar Schottky barrier diodes encapsulated in a SOT23 small plastic SMD package. Low forward voltage selection of the BAT54 series. Single diodes and double diodes with different pinning are available.   AAL Eindhoven MK
footprint SOT23
pins: 1 A1, 2 A2, 3 K1K2

## BAT754L
designator D?, comment Schottky barrier triple diode Three internal (galvanic) isolated silicon epitaxial Schottky barrier diodes in a SOT363 small SMD plastic package.   AAL Eindhoven MK
footprint SOT363
part A pins: 1 A, 6 K
part B pins: 2 A, 5 K
part C pins: 3 A, 4 K

## BAT754S
designator D?, comment Schottky barrier (double) diodes Planar Schottky barrier diodes encapsulated in a SOT23 small plastic SMD package. Low forward voltage selection of the BAT54 series. Single diodes and double diodes with different pinning are available.   AAL Eindhoven MK
footprint SOT23
pins: 1 A1, 2 K2, 3 K1A2

## BAT760
designator D?, comment Medium power Schottky barrier single diode Planar medium power Schottky barrier single diode with an integrated guard ring for stress protection, encapsulated in a SOD323 (SC-76) very small Surface-Mounted Device SMD plastic package.   AAL Eindhoven MK
footprint SOD323(F)
pins: 1 K, 2 A

## BAT854AW
designator D?, comment Schottky barrier (double) diodes Planar Schottky barrier diodes encapsulated in a SOT323 very small SMD plastic package. Single diodes and double diodes with different pinning are available.   AAL Eindhoven MK
footprint SOT323
pins: 1 K1, 2 K2, 3 A1A2

## BAT854CW
designator D?, comment Schottky barrier (double) diodes Planar Schottky barrier diodes encapsulated in a SOT323 very small SMD plastic package. Single diodes and double diodes with different pinning are available.   AAL Eindhoven MK
footprint SOT323
pins: 1 A1, 2 A2, 3 K1K2

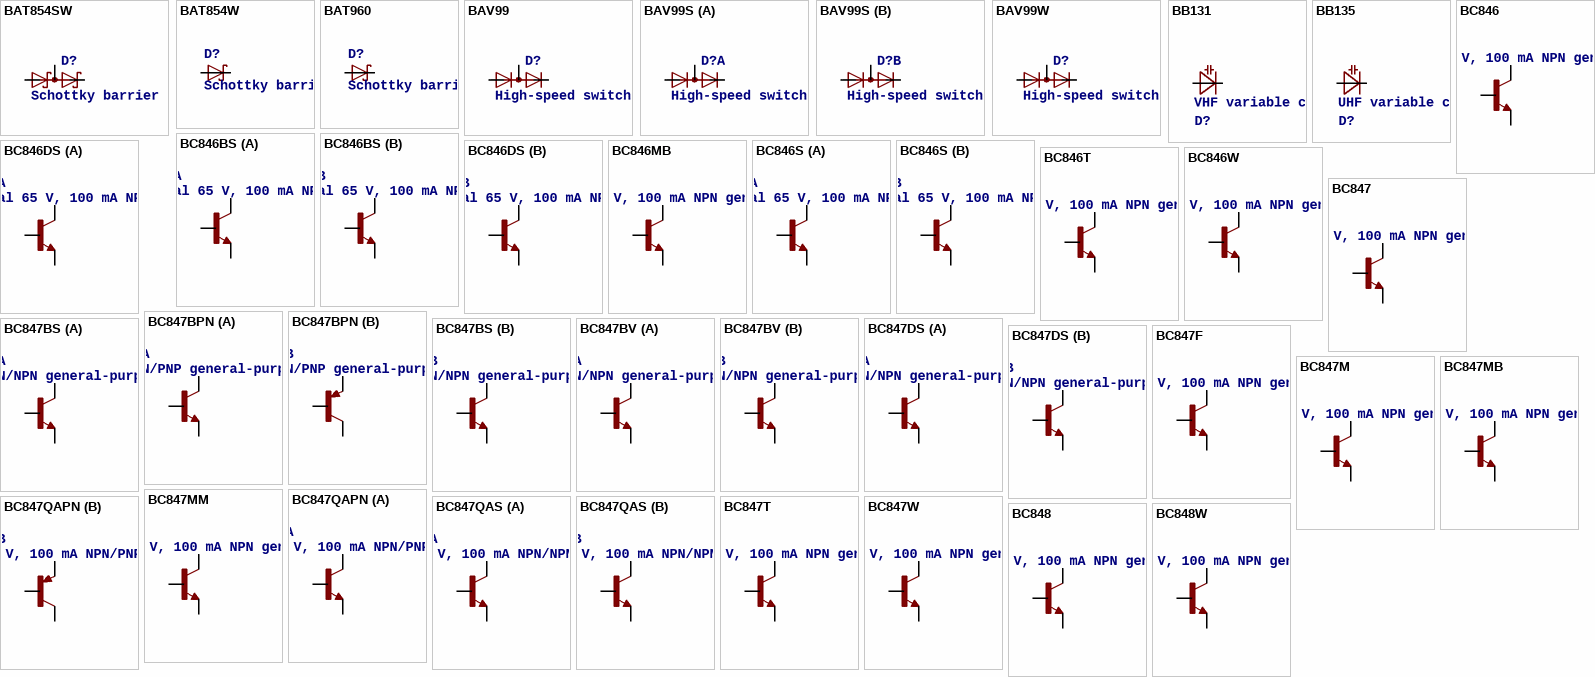
[diagram p32: symbols BAT854SW to BC848W]

## BAT854SW
designator D?, comment Schottky barrier (double) diodes Planar Schottky barrier diodes encapsulated in a SOT323 very small SMD plastic package. Single diodes and double diodes with different pinning are available.   AAL Eindhoven MK
footprint SOT323
pins: 1 A1, 2 K2, 3 K1A2

## BAT854W
designator D?, comment Schottky barrier (double) diodes Planar Schottky barrier diodes encapsulated in a SOT323 very small SMD plastic package. Single diodes and double diodes with different pinning are available.   AAL Eindhoven MK
footprint SOT323
pins: 1 A, 3 K

## BAT960
designator D?, comment Schottky barrier diode  Planar Schottky barrier diode with an integrated guard ring for stress protection in a SOT666 ultra small SMD plastic package.   AAL Eindhoven MK
footprint SOT666
pins: 1 2 5 6 K, 3 4 A

## BAV99
designator D?, comment High-speed switching diode High-speed switching diodes, encapsulated in small Surface-Mounted Device (SMD) plastic packages.    AAL Eindhoven MK
footprint SOT23
pins: 1 A1, 2 K2, 3 K1A2

## BAV99S
designator D?, comment High-speed switching diode High-speed switching diodes, encapsulated in small Surface-Mounted Device (SMD) plastic packages.    AAL Eindhoven MK
footprint SOT363
part A pins: 1 A1, 2 K2, 6 K1A2
part B pins: 3 K1A2, 4 A1, 5 K2

## BAV99W
designator D?, comment High-speed switching diode High-speed switching diodes, encapsulated in small Surface-Mounted Device (SMD) plastic packages.    AAL Eindhoven MK
footprint SOT323
pins: 1 A1, 2 K2, 3 K1A2

## BB131
designator D?, comment VHF variable capacitance diode The BB131 is a variable capacitance diode, fabricated in planar technology, and encapsulated in the SOD323 (SC-76) very small plastic SMD package   AAL Eindhoven MK
footprint SOD323(F)
pins: 1 K, 2 A

## BB135
designator D?, comment UHF variable capacitance diode The BB135 is a variable capacitance diode, fabricated in planar technology, and encapsulated in the SOD323 very small plastic SMD package.The matched type, BB134 has the same specification.e   AAL Eindhoven MK
footprint SOD323(F)
pins: 1 K, 2 A

## BC846
designator T?, comment 65 V, 100 mA NPN general-purpose transistors    AAL Eindhoven  MK
footprint SOT23
pins: 1 B, 2 E, 3 C

## BC846BS
designator T?, comment Dual 65 V, 100 mA NPN/NPN general-purpose transistor    AAL Eindhoven MK
footprint SOT363
part A pins: 1 E, 2 B, 6 C
part B pins: 3 C, 4 E, 5 B

## BC846DS
designator T?, comment Dual 65 V, 100 mA NPN/NPN general-purpose transistor    AAL Eindhoven MK
footprint SOT457
part A pins: 1 E, 2 B, 6 C
part B pins: 3 C, 4 E, 5 B

## BC846MB
designator T?, comment 65 V, 100 mA NPN general-purpose transistors    AAL Eindhoven  MK
footprint SOT883(B)
pins: 1 B, 2 E, 3 C

## BC846S
designator T?, comment Dual 65 V, 100 mA NPN/NPN general-purpose transistor    AAL Eindhoven MK
footprint SOT363
part A pins: 1 E, 2 B, 6 C
part B pins: 3 C, 4 E, 5 B

## BC846T
designator T?, comment 65 V, 100 mA NPN general-purpose transistors    AAL Eindhoven  MK
footprint SOT416
pins: 1 B, 2 E, 3 C

## BC846W
designator T?, comment 65 V, 100 mA NPN general-purpose transistors    AAL Eindhoven  MK
footprint SOT323
pins: 1 B, 2 E, 3 C

## BC847
designator T?, comment 45 V, 100 mA NPN general-purpose transistors NPN general-purpose transistor    AAL Eindhoven MK
footprint SOT23
pins: 1 B, 2 E, 3 C

## BC847BPN
designator T?, comment NPN/PNP general-purpose transistor pair in a very small SOT363 (SC-88) Surface-Mounted Device (SMD) plastic package.    AAL Eindhoven MK
footprint SOT363
part A pins: 1 E, 2 B, 6 C
part B pins: 3 C, 4 E, 5 B

## BC847BS
designator T?, comment NPN/NPN general-purpose transistor pair in a very small SOT363 (SC-88) Surface-Mounted Device (SMD) plastic package.    AAL Eindhoven MK
footprint SOT363
part A pins: 1 E, 2 B, 6 C
part B pins: 3 C, 4 E, 5 B

## BC847BV
designator T?, comment NPN/NPN general-purpose transistor pair in a very small SOT363 (SC-88) Surface-Mounted Device (SMD) plastic package.    AAL Eindhoven MK
footprint SOT666
part A pins: 1 E, 2 B, 6 C
part B pins: 3 C, 4 E, 5 B

## BC847DS
designator T?, comment NPN/NPN general-purpose transistor pair in a small SOT457 (SC-74) Surface-Mounted Device (SMD) plastic package.    AAL Eindhoven MK
footprint SOT457
part A pins: 1 E, 2 B, 6 C
part B pins: 3 C, 4 E, 5 B

## BC847F
designator T?, comment 45 V, 100 mA NPN general-purpose transistors NPN general-purpose transistor    AAL Eindhoven MK
footprint SOT490
pins: 1 B, 2 E, 3 C

## BC847M
designator T?, comment 45 V, 100 mA NPN general-purpose transistors NPN general-purpose transistor    AAL Eindhoven MK
footprint SOT883(B)
pins: 1 B, 2 E, 3 C

## BC847MB
designator T?, comment 45 V, 100 mA NPN general-purpose transistors NPN general-purpose transistor    AAL Eindhoven MK
footprint SOT883(B)
pins: 1 B, 2 E, 3 C

## BC847MM
designator T?, comment 45 V, 100 mA NPN general-purpose transistors NPN general-purpose transistor    AAL Eindhoven MK
footprint SOT1263
pins: 1 B, 2 E, 3 C

## BC847QAPN
designator T?, comment 45 V, 100 mA NPN/PNP general-purpose transistor NPN/PNP general-purpose transistor in a leadless ultra small DFN1010B-6 (SOT1216) Surface-Mounted Device (SMD) plastic package.    AAL Eindhoven MK
footprint SOT1216
part A pins: 1 E, 2 B, 6 C
part B pins: 3 C, 4 E, 5 B

## BC847QAS
designator T?, comment 45 V, 100 mA NPN/NPN general-purpose transistor NPN/NPN general-purpose transistor in a leadless ultra small DFN1010B-6 (SOT1216) Surface-Mounted Device (SMD) plastic package. PNP/PNP complement: BC857QAS. NPN/PNP complement: BC847QAPN.    AAL Eindhoven MK
footprint SOT1216
part A pins: 1 E, 2 B, 6 C
part B pins: 3 C, 4 E, 5 B

## BC847T
designator T?, comment 45 V, 100 mA NPN general-purpose transistors NPN general-purpose transistor    AAL Eindhoven MK
footprint SOT416
pins: 1 B, 2 E, 3 C

## BC847W
designator T?, comment 45 V, 100 mA NPN general-purpose transistors NPN general-purpose transistor    AAL Eindhoven MK
footprint SOT323
pins: 1 B, 2 E, 3 C

## BC848
designator T?, comment 30 V, 100 mA NPN general-purpose transistors    AAL Eindhoven MK
footprint SOT23
pins: 1 B, 2 E, 3 C

## BC848W
designator T?, comment 30 V, 100 mA NPN general-purpose transistors    AAL Eindhoven MK
footprint SOT323
pins: 1 B, 2 E, 3 C

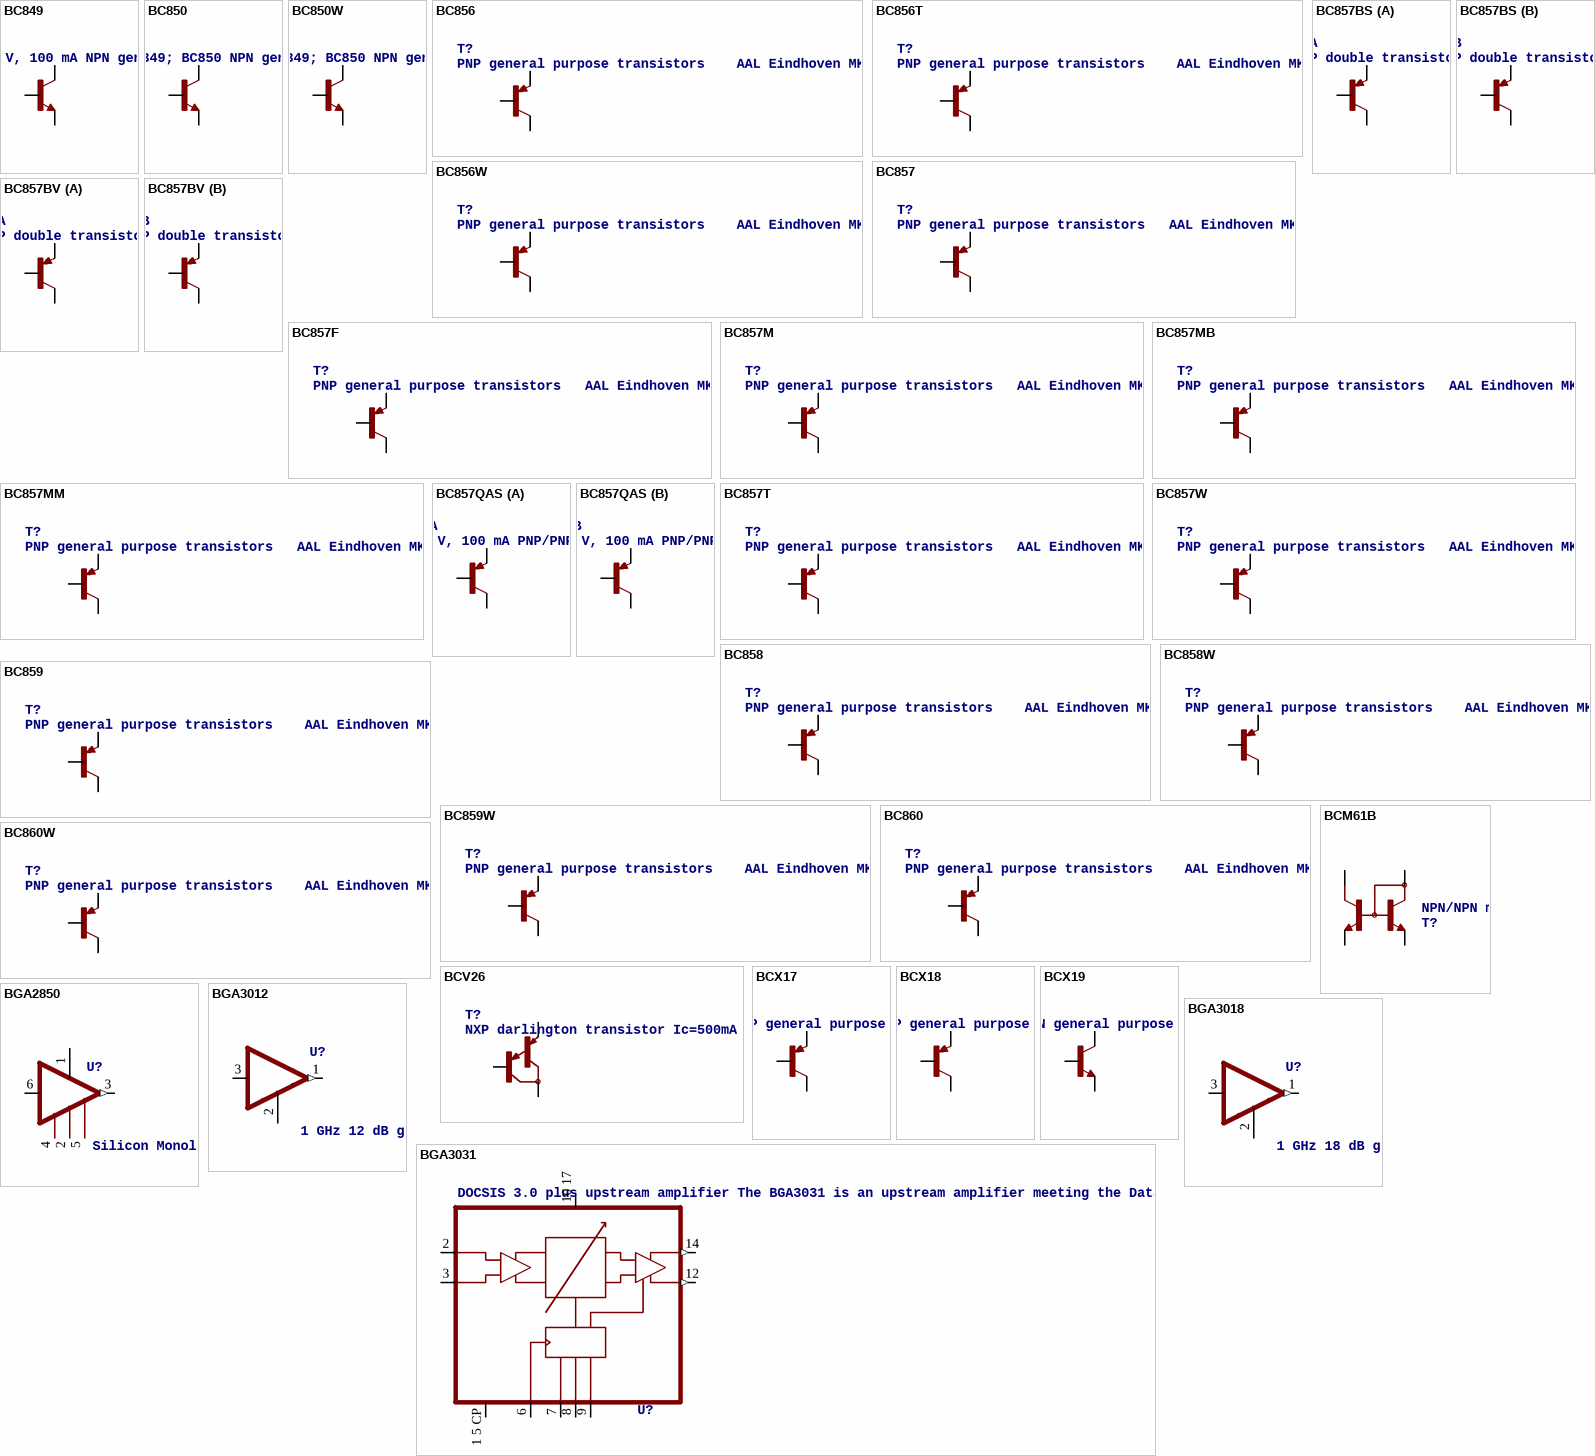
[diagram p33: symbols BC849 to BGA3031]

## BC849
designator T?, comment 45 V, 100 mA NPN general-purpose transistors    AAL Eindhoven MK
footprint SOT23
pins: 1 B, 2 E, 3 C

## BC850
designator T?, comment BC849; BC850 NPN general purpose transistors    AAL Eindhoven MK
footprint SOT23
pins: 1 B, 2 E, 3 C

## BC850W
designator T?, comment BC849; BC850 NPN general purpose transistors    AAL Eindhoven MK
footprint SOT323
pins: 1 B, 2 E, 3 C

## BC856
designator T?, comment PNP general purpose transistors    AAL Eindhoven MK
footprint SOT23
pins: 1 B, 2 E, 3 C

## BC856T
designator T?, comment PNP general purpose transistors    AAL Eindhoven MK
footprint SOT416
pins: 1 B, 2 E, 3 C

## BC856W
designator T?, comment PNP general purpose transistors    AAL Eindhoven MK
footprint SOT323
pins: 1 B, 2 E, 3 C

## BC857
designator T?, comment PNP general purpose transistors   AAL Eindhoven MK
footprint SOT23
pins: 1 B, 2 E, 3 C

## BC857BS
designator T?, comment PNP double transistor in an SC-88; SOT363 plastic package.    AAL Eindhoven MK
footprint SOT363
part A pins: 1 E, 2 B, 6 C
part B pins: 3 C, 4 E, 5 B

## BC857BV
designator T?, comment PNP double transistor in a SOT666 plastic package. NPN complement: BC847BV.    AAL Eindhoven MK
footprint SOT666
part A pins: 1 E, 2 B, 6 C
part B pins: 3 C, 4 E, 5 B

## BC857F
designator T?, comment PNP general purpose transistors   AAL Eindhoven MK
footprint SOT490
pins: 1 B, 2 E, 3 C

## BC857M
designator T?, comment PNP general purpose transistors   AAL Eindhoven MK
footprint SOT883(B)
pins: 1 B, 2 E, 3 C

## BC857MB
designator T?, comment PNP general purpose transistors   AAL Eindhoven MK
footprint SOT883(B)
pins: 1 B, 2 E, 3 C

## BC857MM
designator T?, comment PNP general purpose transistors   AAL Eindhoven MK
footprint SOT1263
pins: 1 B, 2 E, 3 C

## BC857QAS
designator T?, comment 45 V, 100 mA PNP/PNP general-purpose transistor PNP/PNP general-purpose transistor in a leadless ultra small DFN1010B-6 (SOT1216) Surface-Mounted Device (SMD) plastic package. NPN/NPN complement: BC847QAS. NPN/PNP complement: BC847QAPN.    AAL Eindhoven MK
footprint SOT1216
part A pins: 1 E, 2 B, 6 C
part B pins: 3 C, 4 E, 5 B

## BC857T
designator T?, comment PNP general purpose transistors   AAL Eindhoven MK
footprint SOT416
pins: 1 B, 2 E, 3 C

## BC857W
designator T?, comment PNP general purpose transistors   AAL Eindhoven MK
footprint SOT323
pins: 1 B, 2 E, 3 C

## BC858
designator T?, comment PNP general purpose transistors    AAL Eindhoven MK
footprint SOT23
pins: 1 B, 2 E, 3 C

## BC858W
designator T?, comment PNP general purpose transistors    AAL Eindhoven MK
footprint SOT323
pins: 1 B, 2 E, 3 C

## BC859
designator T?, comment PNP general purpose transistors    AAL Eindhoven MK
footprint SOT23
pins: 1 B, 2 E, 3 C

## BC859W
designator T?, comment PNP general purpose transistors    AAL Eindhoven MK
footprint SOT323
pins: 1 B, 2 E, 3 C

## BC860
designator T?, comment PNP general purpose transistors    AAL Eindhoven MK
footprint SOT23
pins: 1 B, 2 E, 3 C

## BC860W
designator T?, comment PNP general purpose transistors    AAL Eindhoven MK
footprint SOT323
pins: 1 B, 2 E, 3 C

## BCM61B
designator T?, comment NPN/NPN matched double transistor NPN/NPN matched double transistor in a SOT143B small Surface-Mounted Device (SMD) plastic package. Matched version of BCV61. PNP/PNP equivalent: BCM62B    AAL Eindhoven MK
footprint SOT143(B)
pins: 1 CTR2B, 2 CTR1, 3 ETR1, 4 ETR2

## BCV26
designator T?, comment NXP darlington transistor Ic=500mA
footprint SOT23
pins: 1 B, 2 E, 3 C

## BCX17
designator T?, comment PNP general purpose transistors  PNP transistor in a SOT23 plastic package. NPN complement: BCX19.   AAL Eindhoven MK
footprint SOT23
pins: 1 B, 2 E, 3 C

## BCX18
designator T?, comment PNP general purpose transistors  PNP transistor in a SOT23 plastic package. NPN complement: BCX19.   AAL Eindhoven MK
footprint SOT23
pins: 1 B, 2 E, 3 C

## BCX19
designator T?, comment NPN general purpose transistor NPN transistor in a SOT23 plastic package. PNP complement: BCX17.   AAL Eindhoven MK
footprint SOT23
pins: 1 B, 2 E, 3 C

## BGA2850
designator U?, comment Silicon Monolithic Microwave Integrated Circuit (MMIC) wideband amplifier with internal matching circuit in a 6-pin SOT363 plastic SMD package.   AAL Eindhoven MV+ MK
12NC: 9352 900 54115
footprint SOT363
pins: 1 VCC (power), 2 GND2@1 (power), 3 OUT (out), 4 GND1 (power), 5 GND2@2 (power), 6 -IN

## BGA3012
designator U?, comment 1 GHz 12 dB gain wideband amplifier MMIC The BGA3012 MMIC is a wideband amplifier with internal biasing. It is designed specifically for high linearity CATV line extenders and drop amplifiers over a frequency range of 5 MHz to 1006 MHz. The LNA is housed in a lead free 3-pin SOT89 package.    AAL Eindhoven MK
footprint SOT89
pins: 1 OUT (out), 2 GND (power), 3 IN

## BGA3018
designator U?, comment 1 GHz 18 dB gain wideband amplifier MMIC The BGA3018 MMIC is a wideband amplifier with internal biasing. It is designed specifically for high linearity CATV line extenders and drop amplifiers over a frequency range of 5 MHz to 1006 MHz. The LNA is housed in a lead free 3-pin SOT89 package.    AAL Eindhoven MK
footprint SOT89
pins: 1 OUT (out), 2 GND (power), 3 IN

## BGA3031
designator U?, comment DOCSIS 3.0 plus upstream amplifier The BGA3031 is an upstream amplifier meeting the Data Over Cable Service Interface Specifications (DOCSIS 3.0). It is designed for cable modem, CATV set top box and VoIP modem applications. The device operates from 5 MHz to 85 MHz. The BGA3031 provides 58 dB gain control range in 1 dB increments with high incremental accuracy. Its maximum gain setting delivers 34 dB voltage gain and a superior linear performance. It supports high output power levels, exceeding the DOCSIS 3.0 power levels while minimizing distortion and output noise levels. The BGA3031 is capable of transmitting 1 to 8 64-QAM and 1 to 8 QPSK modulated carriers while meeting the DOCSIS 3.0 ACLR specification under DOCSIS 3.0 + 4 dB conditions. The BGA3031 operates at 5 V supply. The gain is controlled via a 3-wire serial interface. The current consumption can be reduced in 4 steps via the serial interface. This enables the user to optimize between DC power efficiency and linearity. In addition the current is automatically reduced at lower gain settings while preserving the linearity performance. In disable mode the device draws typical 6 mA while it still can be programmed to new gain and current settings. The BGA3031 is housed in 20 pins 5 mm  5 mm leadless HVQFN package.    AAL Eindhoven MK
footprint SOT662-1
pins: 1 5 CP GND (power), 2 IN_P, 3 IN_N, 6 CLK, 7 DATA, 8 CS, 9 TX_EN, 10 17 VCC (power), 12 OUT_N (out), 14 OUT_P (out)

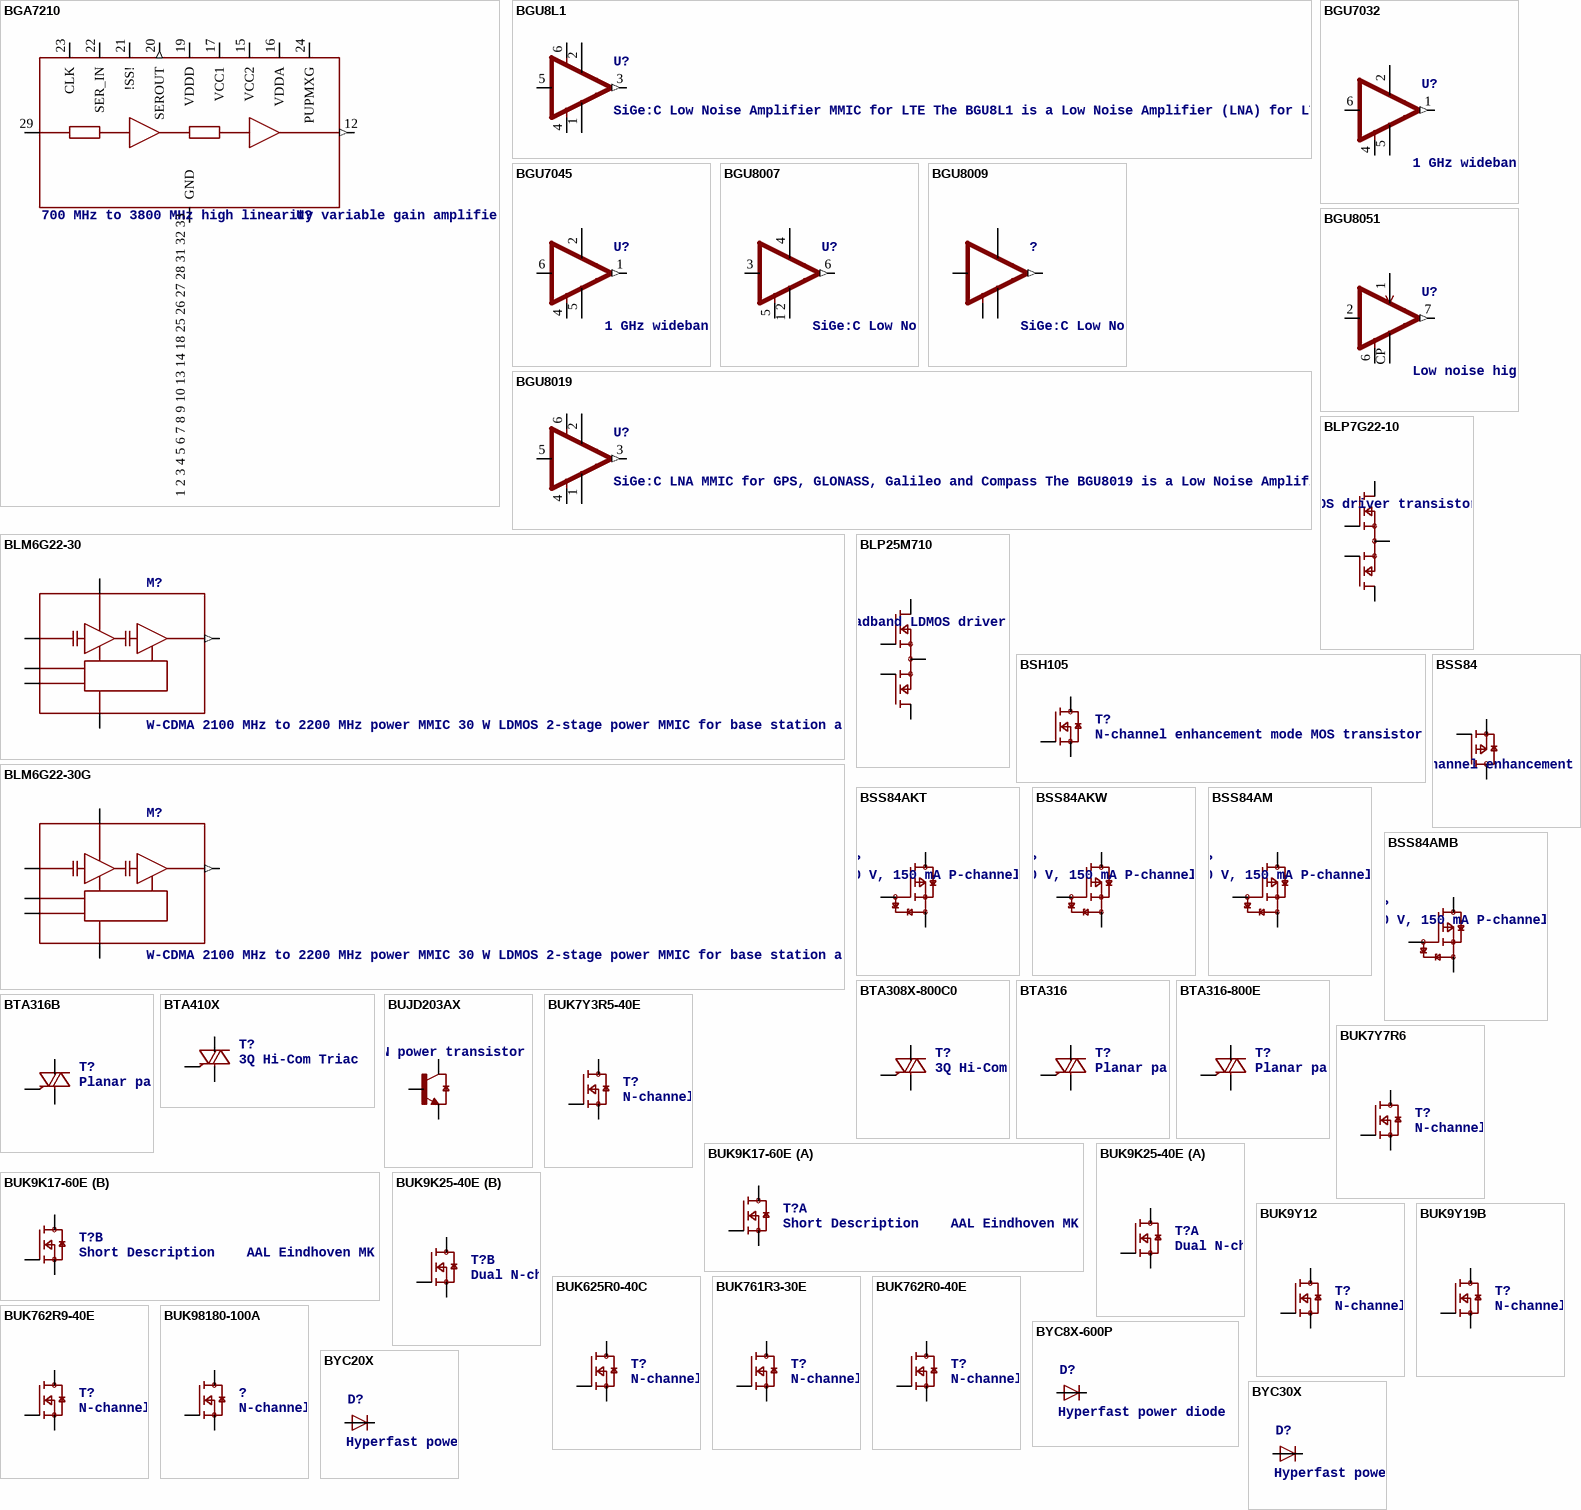
[diagram p34: symbols BGA7210 to BYC30X]

## BGA7210
designator U?, comment 700 MHz to 3800 MHz high linearity variable gain amplifier
footprint SOT617-3
pins: 1 2 3 4 5 6 7 8 9 10 13 14 18 25 26 27 28 31 32 33 GND (power), 12 RF_OUT (out), 15 VCC2 (power), 16 VDDA (power), 17 VCC1 (power), 19 VDDD (power), 20 SEROUT (out), 21 !SS!, 22 SER_IN, 23 CLK, 24 PUPMXG, 29 RF_IN